# Altium footprint library zetex.PCBLIB: 20 footprints (part 1 of 2)
Each footprint in its own frame and in the unit in brackets; x right, y up, seen from the top. Pads: shape width x height; smd on the part's side, far side on the other; paste and mask are expansions set on the pad; w line width, h text height; cw(c..) or ccw(c..) is an arc to the next point about the centre after c.
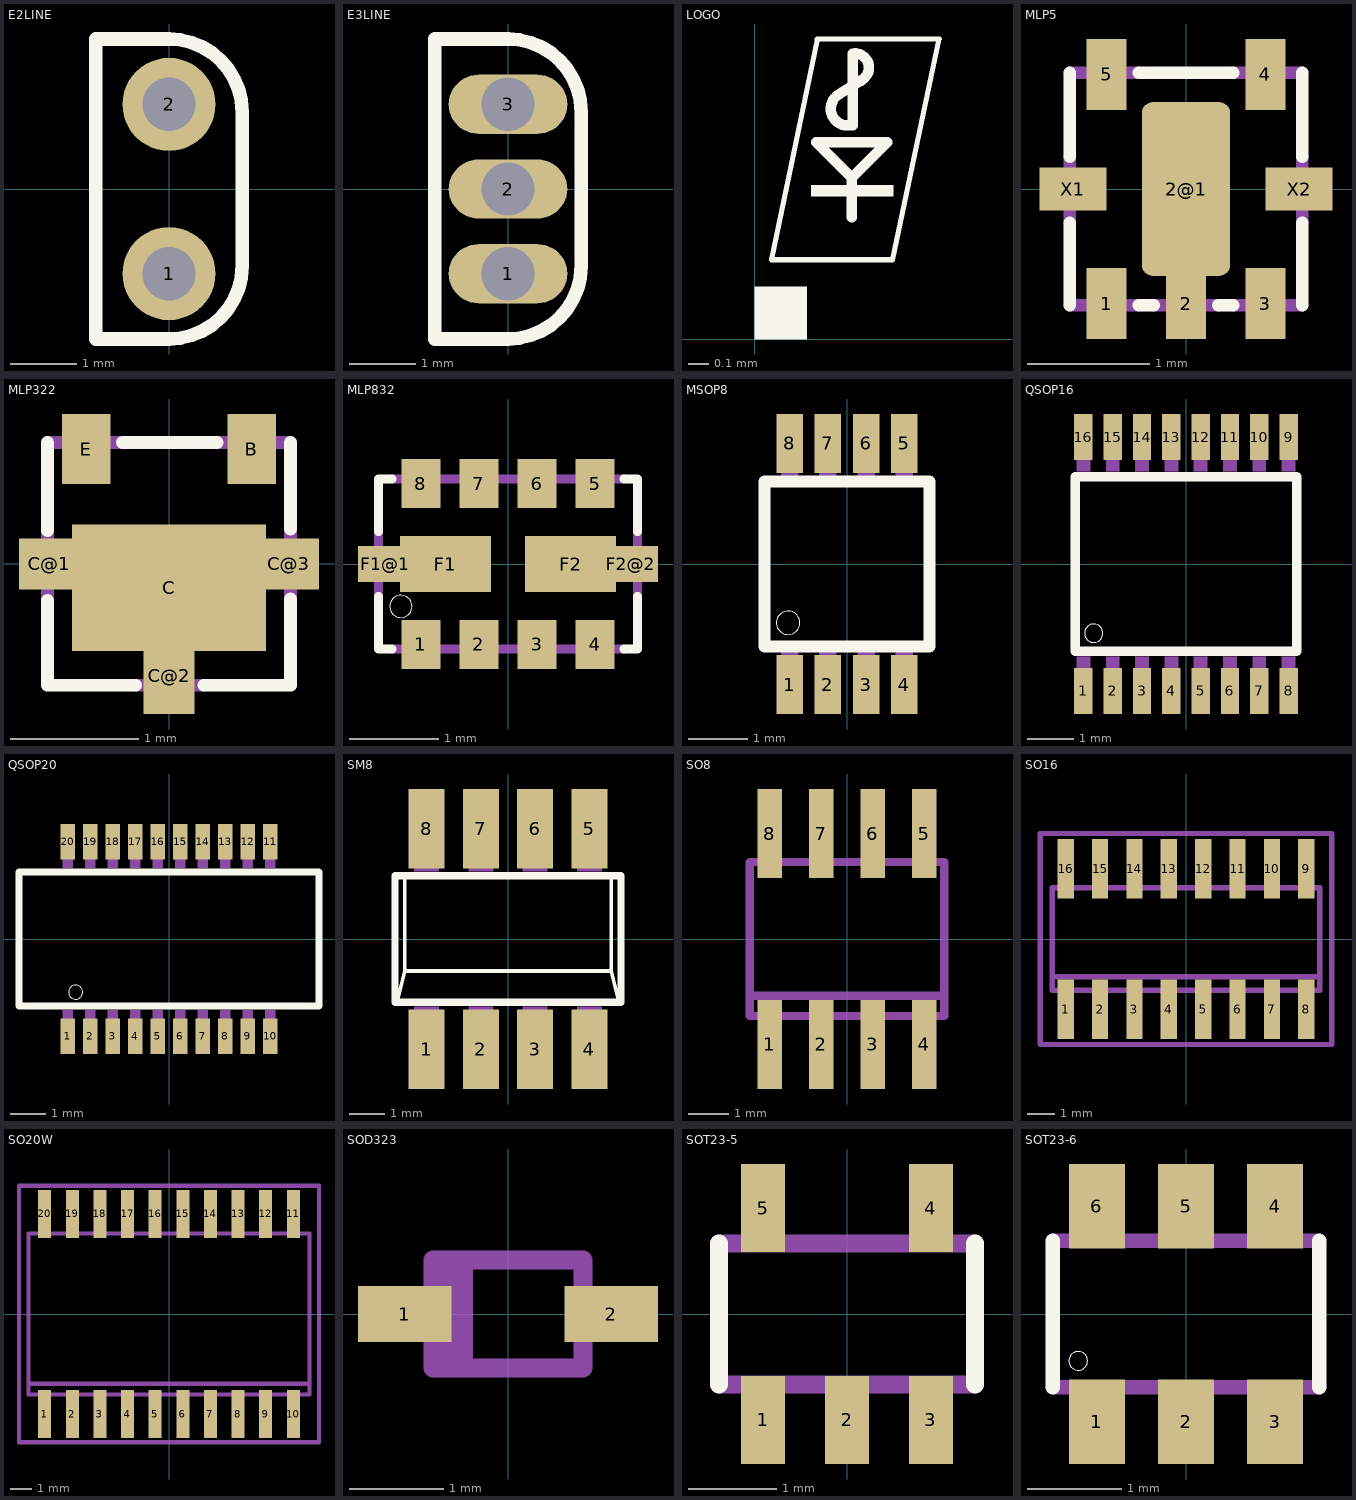
[diagram p0: the footprints below, top view; thin cyan lines are the x and y axes]

## E2LINE [mil]
pads (2):
  round 55 hole 31.5: 1(0,-50) 2(0,50)
Top Overlay:
  lines w8: -43.31,-88.58 0,-88.58 ccw(c0.01,-45.27) 43.31,-45.28 43.31,45.28 ccw(c0.01,45.27) 0,88.58 -43.31,88.58 -43.31,-88.58

## E3LINE [mil]
pads (3):
  oval 70x35 hole 31.5: 1(0,-50) 2(0,0) 3(0,50)
Top Overlay:
  lines w8: -43.31,-88.58 0,-88.58 ccw(c0.01,-45.27) 43.31,-45.28 43.31,45.28 ccw(c0.01,45.27) 0,88.58 -43.31,88.58 -43.31,-88.58

## LOGO [mm]
Top Overlay:
  rectangle: 0.274,0.696 0.676,0.752
  region: 0,0 0.254,0 0.254,0.254 0,0.254
  region: 0,0 0.254,0 0.254,0.254 0,0.254
  region: 0,0 0.254,0 0.254,0.254 0,0.254
  region: 0,0 0.254,0 0.254,0.254 0,0.254
  region: 0,0 0.254,0 0.254,0.254 0,0.254
  region: 0,0 0.254,0 0.254,0.254 0,0.254
  lines w0.025: 0.081,0.386 0.671,0.386 0.899,1.463 0.305,1.463 0.081,0.386
  lines w0.051: 0.452,1.041 cw(c0.452,1.123) 0.411,1.194 0.518,1.26 ; 0.462,1.041 0.478,1.041 0.478,1.392 ; 0.472,0.594 0.472,0.787 ; 0.493,1.392 0.478,1.392 ; 0.513,1.26 ccw(c0.488,1.324) 0.478,1.392 ; 0.472,0.787 0.645,0.96 0.3,0.96 0.472,0.787 ; 0.478,1.392 0.478,1.392

## MLP5 [mm]
pads (8):
  rect 0.33x0.58 smd: 1(-0.65,-0.938) 2(0,-0.938) 3(0.65,-0.938) 4(0.65,0.938) 5(-0.65,0.938)
  rrect25% 0.724x1.424 smd: 2@1(0,0)
  rect 0.55x0.35 smd: X1(-0.925,0) X2(0.925,0)
Top Overlay:
  lines w0.102: -0.95,-0.95 -0.95,-0.275 ; -0.95,0.262 -0.95,0.95 ; -0.388,-0.95 -0.262,-0.95 ; -0.388,0.95 0.388,0.95 ; 0.262,-0.95 0.388,-0.95 ; 0.95,-0.95 0.95,-0.275 ; 0.95,0.262 0.95,0.95
Mechanical 16:
  circle w0: c-0.65,0.825 r0.137
  circle w0: c0.65,0.825 r0.137
  circle w0: c0.65,-0.825 r0.137
  circle w0: c-0.65,-0.825 r0.137
  rectangle: -0.787,0.813 -0.513,1.125
  rectangle: 0.513,0.813 0.787,1.125
  rectangle: 0.513,-1.125 0.787,-0.813
  rectangle: -0.787,-1.125 -0.513,-0.813
  rectangle: -0.137,-1.125 0.137,-0.7
  rectangle: -1.125,-0.15 -0.725,0.15
  rectangle: 0.725,-0.15 1.125,0.15
  lines w0.102: -0.95,-0.95 -0.388,-0.95 ; -0.95,-0.275 -0.95,0.262 ; -0.95,0.95 -0.388,0.95 ; -0.262,-0.95 0.262,-0.95 ; 0.388,-0.95 0.95,-0.95 ; 0.388,0.95 0.95,0.95 ; 0.95,-0.275 0.95,0.262

## MLP322 [mm]
pads (6):
  rect 0.38x0.55 smd: B(0.65,0.9) E(-0.65,0.9)
  rect 1.52x0.99 smd: C(0,-0.187)
  rect 0.475x0.4 smd: C@1(-0.938,0) C@3(0.938,0)
  rect 0.4x0.6 smd: C@2(0,-0.875)
Top Overlay:
  lines w0.102: -0.95,-0.288 -0.95,-0.95 -0.262,-0.95 ; -0.95,0.262 -0.95,0.95 ; -0.362,0.95 0.375,0.95 ; 0.275,-0.95 0.95,-0.95 0.95,-0.275 ; 0.95,0.275 0.95,0.95
Mechanical 16:
  rectangle: 0.513,0.675 0.787,1.125
  rectangle: -0.787,0.675 -0.513,1.125
  rectangle: -1.125,-0.15 -0.75,0.15
  rectangle: 0.75,-0.15 1.125,0.15
  rectangle: -0.15,-1.125 0.15,-0.675
  lines w0.102: -0.95,-0.288 -0.95,0.262 ; -0.95,0.95 -0.362,0.95 ; -0.262,-0.95 0.275,-0.95 ; 0.375,0.95 0.95,0.95 ; 0.95,-0.275 0.95,0.275

## MLP832 [mm]
pads (12):
  rect 0.44x0.55 smd: 1(-0.975,-0.9) 2(-0.325,-0.9) 3(0.325,-0.9) 4(0.975,-0.9) 5(0.975,0.9) 6(0.325,0.9) 7(-0.325,0.9) 8(-0.975,0.9)
  rect 1.02x0.63 smd: F1(-0.7,0) F2(0.7,0)
  rect 0.61x0.4 smd: F1@1(-1.375,0) F2@2(1.375,0)
Top Overlay:
  circle w0: c-1.2,-0.475 r0.125
  lines w0.102: -1.45,-0.362 -1.45,-0.95 -1.3,-0.95 ; -1.45,0.362 -1.45,0.95 -1.3,0.95 ; 1.3,-0.95 1.45,-0.95 1.45,-0.362 ; 1.3,0.95 1.45,0.95 1.45,0.362
Mechanical 16:
  rectangle: -1.137,0.675 -0.813,1.125
  rectangle: -0.487,0.675 -0.163,1.125
  rectangle: 0.163,0.675 0.487,1.125
  rectangle: 0.813,0.675 1.137,1.125
  rectangle: 0.813,-1.125 1.137,-0.675
  rectangle: 0.163,-1.125 0.487,-0.675
  rectangle: -0.487,-1.125 -0.163,-0.675
  rectangle: -1.137,-1.125 -0.813,-0.675
  rectangle: -1.625,-0.15 -1.487,0.15
  rectangle: 1.487,-0.15 1.625,0.15
  lines w0.102: -1.45,-0.362 -1.45,0.362 ; -1.3,-0.95 1.3,-0.95 ; -1.3,0.95 1.3,0.95 ; 1.45,-0.375 1.45,0.362

## MSOP8 [mm]
pads (8):
  rect 0.45x1 smd: 1(-0.975,-2.05) 2(-0.325,-2.05) 3(0.325,-2.05) 4(0.975,-2.05) 5(0.975,2.05) 6(0.325,2.05) 7(-0.325,2.05) 8(-0.975,2.05)
Top Overlay:
  circle w0: c-1,-1 r0.2
  lines w0.203: -1.4,-1.4 1.4,-1.4 1.4,1.4 -1.4,1.4 -1.4,-1.4
Mechanical 16:
  rectangle: -1.125,-2.45 -0.826,-1.5
  rectangle: -0.475,-2.45 -0.175,-1.5
  rectangle: 0.175,-2.45 0.475,-1.5
  rectangle: 0.825,-2.45 1.125,-1.5
  rectangle: 0.826,1.5 1.125,2.45
  rectangle: 0.175,1.5 0.475,2.45
  rectangle: -0.475,1.5 -0.175,2.45
  rectangle: -1.125,1.5 -0.825,2.45

## QSOP16 [mm]
pads (16):
  rect 0.4x1 smd: 1(-2.223,-2.75) 2(-1.588,-2.75) 3(-0.953,-2.75) 4(-0.318,-2.75) 5(0.318,-2.75) 6(0.953,-2.75) 7(1.588,-2.75) 8(2.223,-2.75) 9(2.223,2.75) 10(1.588,2.75) 11(0.953,2.75) 12(0.318,2.75) 13(-0.318,2.75) 14(-0.953,2.75) 15(-1.588,2.75) 16(-2.223,2.75)
Top Overlay:
  circle w0: c-2,-1.5 r0.2
  lines w0.203: -2.4,-1.89 -2.4,1.89 ; -2.38,-1.89 2.4,-1.89 2.4,1.89 -2.38,1.89
Mechanical 16:
  rectangle: -2.373,-3.1 -2.072,-2
  rectangle: -1.738,-3.1 -1.437,-2
  rectangle: -1.103,-3.1 -0.802,-2
  rectangle: -0.468,-3.1 -0.167,-2
  rectangle: 0.167,-3.1 0.468,-2
  rectangle: 0.802,-3.1 1.103,-2
  rectangle: 1.437,-3.1 1.738,-2
  rectangle: 2.072,-3.1 2.373,-2
  rectangle: 2.072,2 2.373,3.1
  rectangle: 1.437,2 1.738,3.1
  rectangle: 0.802,2 1.103,3.1
  rectangle: 0.167,2 0.468,3.1
  rectangle: -0.468,2 -0.167,3.1
  rectangle: -1.103,2 -0.802,3.1
  rectangle: -1.738,2 -1.437,3.1
  rectangle: -2.373,2 -2.072,3.1

## QSOP20 [mm]
pads (20):
  rect 0.4x1 smd: 1(-2.858,-2.75) 2(-2.223,-2.75) 3(-1.588,-2.75) 4(-0.953,-2.75) 5(-0.318,-2.75) 6(0.318,-2.75) 7(0.953,-2.75) 8(1.588,-2.75) 9(2.223,-2.75) 10(2.858,-2.75) 11(2.858,2.75) 12(2.223,2.75) 13(1.588,2.75) 14(0.953,2.75) 15(0.318,2.75) 16(-0.318,2.75) 17(-0.953,2.75) 18(-1.588,2.75) 19(-2.223,2.75) 20(-2.858,2.75)
Top Overlay:
  circle w0: c-2.635,-1.5 r0.2
  lines w0.203: -4.235,-1.89 4.235,-1.89 4.235,1.89 -4.235,1.89 -4.235,-1.89
Mechanical 16:
  rectangle: -3.008,-3.1 -2.707,-2
  rectangle: -2.373,-3.1 -2.072,-2
  rectangle: -1.738,-3.1 -1.437,-2
  rectangle: -1.103,-3.1 -0.802,-2
  rectangle: -0.468,-3.1 -0.167,-2
  rectangle: 0.167,-3.1 0.468,-2
  rectangle: 0.802,-3.1 1.103,-2
  rectangle: 1.437,-3.1 1.738,-2
  rectangle: 2.072,-3.1 2.373,-2
  rectangle: 2.707,-3.1 3.008,-2
  rectangle: 2.707,2 3.008,3.1
  rectangle: 2.072,2 2.373,3.1
  rectangle: 1.437,2 1.738,3.1
  rectangle: 0.802,2 1.103,3.1
  rectangle: 0.167,2 0.468,3.1
  rectangle: -0.468,2 -0.167,3.1
  rectangle: -1.103,2 -0.802,3.1
  rectangle: -1.738,2 -1.437,3.1
  rectangle: -2.373,2 -2.072,3.1
  rectangle: -3.008,2 -2.707,3.1

## SM8 [mil]
pads (8):
  rect 40x88 smd: 1(-90,-122) 2(-30,-122) 3(30,-122) 4(90,-122) 5(90,122) 6(30,122) 7(-30,122) 8(-90,122)
Top Overlay:
  lines w4: -122.05,-66.93 -114.17,-35.43 ; -114.17,66.93 -114.17,-35.43 ; 114.17,66.93 114.17,-35.43 ; 122.05,-66.93 114.17,-35.43 ; -114.17,-35.43 114.17,-35.43
  lines w8: -125.08,-70 125.08,-70 125.08,70 -125.08,70 -125.08,-70
Mechanical 16:
  rectangle: -103.78,-143.7 -76.22,-74.8
  rectangle: -43.78,-143.7 -16.22,-74.8
  rectangle: 16.22,-143.7 43.78,-74.8
  rectangle: 76.22,-143.7 103.78,-74.8
  rectangle: 76.22,74.8 103.78,143.7
  rectangle: 16.22,74.8 43.78,143.7
  rectangle: -43.78,74.8 -16.22,143.7
  rectangle: -103.78,74.8 -76.22,143.7

## SO8 [mm]
pads (8):
  rect 0.6x2.2 smd: 1(-1.905,-2.6) 2(-0.635,-2.6) 3(0.635,-2.6) 4(1.905,-2.6) 5(1.905,2.6) 6(0.635,2.6) 7(-0.635,2.6) 8(-1.905,2.6)
Mechanical 16:
  rectangle: -2.15,-3.1 -1.66,-2
  rectangle: -0.88,-3.1 -0.39,-2
  rectangle: 0.39,-3.1 0.88,-2
  rectangle: 1.66,-3.1 2.15,-2
  rectangle: 1.66,2 2.15,3.1
  rectangle: 0.39,2 0.88,3.1
  rectangle: -0.88,2 -0.39,3.1
  rectangle: -2.15,2 -1.66,3.1
  lines w0.203: -2.4,-1.4 -2.4,-1.9 2.4,-1.9 2.4,-1.4 ; -2.4,-1.4 -2.4,1.9 2.4,1.9 2.4,-1.4 ; -2.4,-1.4 2.4,-1.4

## SO16 [mm]
pads (16):
  rect 0.6x2.2 smd: 1(-4.445,-2.6) 2(-3.175,-2.6) 3(-1.905,-2.6) 4(-0.635,-2.6) 5(0.635,-2.6) 6(1.905,-2.6) 7(3.175,-2.6) 8(4.445,-2.6) 9(4.445,2.6) 10(3.175,2.6) 11(1.905,2.6) 12(0.635,2.6) 13(-0.635,2.6) 14(-1.905,2.6) 15(-3.175,2.6) 16(-4.445,2.6)
Mechanical 16:
  rectangle: -4.69,-3.1 -4.2,-2
  rectangle: -3.42,-3.1 -2.93,-2
  rectangle: -2.15,-3.1 -1.66,-2
  rectangle: -0.88,-3.1 -0.39,-2
  rectangle: 1.66,2 2.15,3.1
  rectangle: 0.39,2 0.88,3.1
  rectangle: -0.88,2 -0.39,3.1
  rectangle: -2.15,2 -1.66,3.1
  rectangle: 0.39,-3.1 0.88,-2
  rectangle: 1.66,-3.1 2.15,-2
  rectangle: 2.93,-3.1 3.42,-2
  rectangle: 4.2,-3.1 4.69,-2
  rectangle: 4.2,2 4.69,3.1
  rectangle: 2.93,2 3.42,3.1
  rectangle: -3.42,2 -2.93,3.1
  rectangle: -4.69,2 -4.2,3.1
  lines w0.203: -4.94,-1.4 -4.94,-1.9 4.94,-1.9 4.94,-1.4 ; -4.94,-1.4 -4.94,1.9 4.94,1.9 4.94,-1.4 ; -4.94,-1.4 4.94,-1.4
Mechanical 27:
  lines w0.2: -5.395,-3.9 5.395,-3.9 5.395,3.9 -5.395,3.9 -5.395,-3.9

## SO20W [mm]
pads (20):
  rect 0.6x2.2 smd: 1(-5.715,-4.6) 2(-4.445,-4.6) 3(-3.175,-4.6) 4(-1.905,-4.6) 5(-0.635,-4.6) 6(0.635,-4.6) 7(1.905,-4.6) 8(3.175,-4.6) 9(4.445,-4.6) 10(5.715,-4.6) 11(5.715,4.6) 12(4.445,4.6) 13(3.175,4.6) 14(1.905,4.6) 15(0.635,4.6) 16(-0.635,4.6) 17(-1.905,4.6) 18(-3.175,4.6) 19(-4.445,4.6) 20(-5.715,4.6)
Mechanical 16:
  rectangle: -5.96,-5.32 -5.47,-3.8
  rectangle: -4.69,-5.32 -4.2,-3.8
  rectangle: -3.42,-5.32 -2.93,-3.8
  rectangle: -2.15,-5.32 -1.66,-3.8
  rectangle: -0.88,-5.32 -0.39,-3.8
  rectangle: 0.39,-5.32 0.88,-3.8
  rectangle: 1.66,-5.32 2.15,-3.8
  rectangle: 2.93,-5.32 3.42,-3.8
  rectangle: 4.2,-5.32 4.69,-3.8
  rectangle: 5.47,-5.32 5.96,-3.8
  rectangle: 5.47,3.8 5.96,5.32
  rectangle: 4.2,3.8 4.69,5.32
  rectangle: 2.93,3.8 3.42,5.32
  rectangle: 1.66,3.8 2.15,5.32
  rectangle: 0.39,3.8 0.88,5.32
  rectangle: -0.88,3.8 -0.39,5.32
  rectangle: -2.15,3.8 -1.66,5.32
  rectangle: -3.42,3.8 -2.93,5.32
  rectangle: -4.69,3.8 -4.2,5.32
  rectangle: -5.96,3.8 -5.47,5.32
  lines w0.203: -6.46,-3.2 -6.46,-3.7 6.46,-3.7 6.46,-3.2 ; -6.46,-3.2 -6.46,3.7 6.46,3.7 6.46,-3.2 ; -6.46,-3.2 6.46,-3.2
Mechanical 27:
  lines w0.2: -6.895,-5.9 6.895,-5.9 6.895,5.9 -6.895,5.9 -6.895,-5.9

## SOD323 [mm]
pads (2):
  rect 1x0.6 smd: 1(-1.1,0) 2(1.1,0)
Mechanical 16:
  rectangle: -1.35,-0.2 -0.9,0.2
  rectangle: 0.9,-0.2 1.35,0.2
  rectangle: -0.75,-0.575 -0.375,0.575
  lines w0.203: -0.8,-0.575 0.8,-0.575 0.8,0.575 -0.8,0.575 -0.8,-0.575

## SOT23-5 [mm]
pads (5):
  rect 0.5x1 smd: 1(-0.95,-1.2) 2(0,-1.2) 3(0.95,-1.2) 4(0.95,1.2) 5(-0.95,1.2)
Top Overlay:
  lines w0.203: -1.45,-0.8 -1.45,0.8 ; 1.45,-0.8 1.45,0.8
Mechanical 16:
  rectangle: -1.175,-1.6 -0.725,-0.9
  rectangle: -0.225,-1.6 0.225,-0.9
  rectangle: 0.725,-1.6 1.175,-0.9
  region: -0.725,1.6 -1.175,1.6 -1.175,0.9 -0.725,0.9
  region: 1.175,1.6 0.725,1.6 0.725,0.9 1.175,0.9
  lines w0.203: -1.45,-0.8 1.45,-0.8 ; -1.45,0.8 1.45,0.8

## SOT23-6 [mm]
pads (6):
  rect 0.6x0.9 smd: 1(-0.95,-1.15) 2(0,-1.15) 3(0.95,-1.15) 4(0.95,1.15) 5(0,1.15) 6(-0.95,1.15)
Top Overlay:
  circle w0: c-1.15,-0.5 r0.1
  lines w0.152: -1.423,-0.781 -1.423,0.781 ; 1.422,-0.781 1.422,0.781
Mechanical 16:
  rectangle: -1.2,-1.4 -0.7,-0.8
  rectangle: -0.25,-1.4 0.25,-0.8
  rectangle: 0.7,-1.4 1.2,-0.8
  rectangle: 0.7,0.8 1.2,1.4
  rectangle: -0.25,0.8 0.25,1.4
  rectangle: -1.2,0.8 -0.7,1.4
  lines w0.152: -1.423,-0.781 1.422,-0.781 ; -1.423,0.781 1.422,0.781